# EAGLE library part MAXQ7667AACM/V+ (library maxq7667)
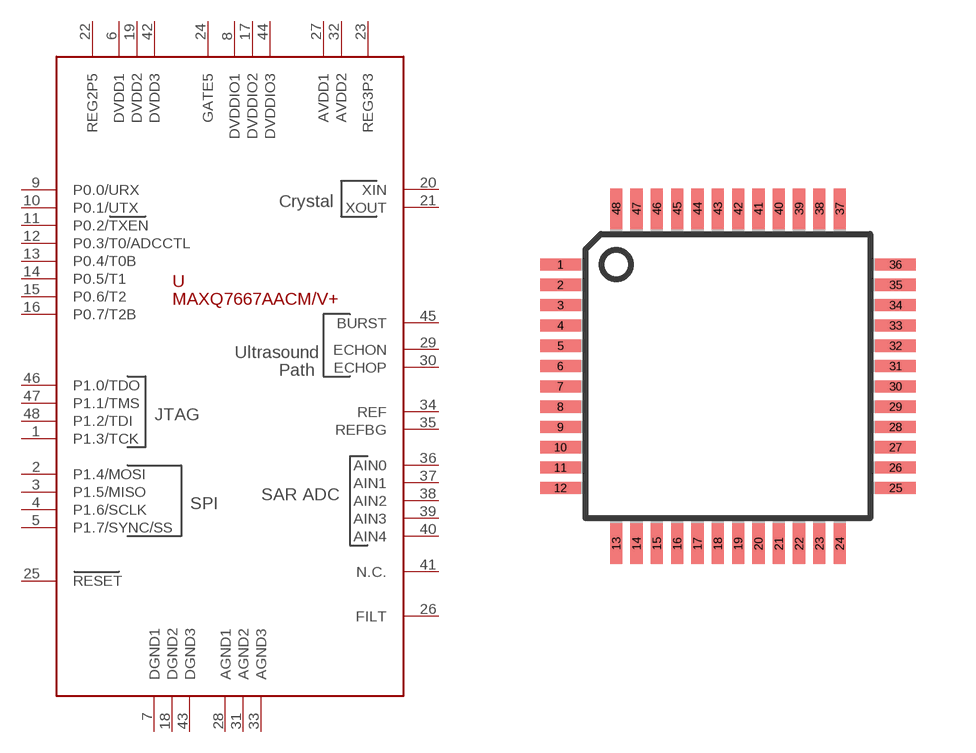
[diagram p0: symbol with the pads of TQFP48; footprint TQFP48]

Designator prefix -

## MAXQ7667AACM/V+  [TQFP48]
1  P1.3/TCK
2  P1.4/MOSI
3  P1.5/MISO
4  P1.6/SCLK
5  P1.7/SYNC/SS
6  DVDD1  pwr
7  DGND1  pwr
8  DVDDIO1  pwr
9  P0.0/URX
10  P0.1/UTX
11  P0.2/TXEN
12  P0.3/T0/ADCCTL
13  P0.4/T0B
14  P0.5/T1
15  P0.6/T2
16  P0.7/T2B
17  DVDDIO2  pwr
18  DGND2  pwr
19  DVDD2  pwr
20  XIN  in
21  XOUT  out
22  REG2P5  pwr
23  REG3P3  pwr
24  GATE5  out
25  RESET
26  FILT
27  AVDD1  pwr
28  AGND1  pwr
29  ECHON  in
30  ECHOP  in
31  AGND2  pwr
32  AVDD2  pwr
33  AGND3  pwr
34  REF
35  REFBG
36  AIN0  in
37  AIN1  in
38  AIN2  in
39  AIN3  in
40  AIN4  in
41  N.C.  nc
42  DVDD3  pwr
43  DGND3  pwr
44  DVDDIO3  pwr
45  BURST  out
46  P1.0/TDO
47  P1.1/TMS
48  P1.2/TDI

## Footprint TQFP48 (pad centres in mm)
Thin Plasic Quad Flat Package
smd 1.016 x 0.305: 1 -4.191,2.794; 2 -4.191,2.286; 3 -4.191,1.778; 4 -4.191,1.27; 5 -4.191,0.762; 6 -4.191,0.254; 7 -4.191,-0.254; 8 -4.191,-0.762; 9 -4.191,-1.27; 10 -4.191,-1.778; 11 -4.191,-2.286; 12 -4.191,-2.794; 25 4.191,-2.794; 26 4.191,-2.286; 27 4.191,-1.778; 28 4.191,-1.27; 29 4.191,-0.762; 30 4.191,-0.254; 31 4.191,0.254; 32 4.191,0.762; 33 4.191,1.27; 34 4.191,1.778; 35 4.191,2.286; 36 4.191,2.794
smd 0.305 x 1.016: 13 -2.794,-4.191; 14 -2.286,-4.191; 15 -1.778,-4.191; 16 -1.27,-4.191; 17 -0.762,-4.191; 18 -0.254,-4.191; 19 0.254,-4.191; 20 0.762,-4.191; 21 1.27,-4.191; 22 1.778,-4.191; 23 2.286,-4.191; 24 2.794,-4.191; 37 2.794,4.191; 38 2.286,4.191; 39 1.778,4.191; 40 1.27,4.191; 41 0.762,4.191; 42 0.254,4.191; 43 -0.254,4.191; 44 -0.762,4.191; 45 -1.27,4.191; 46 -1.778,4.191; 47 -2.286,4.191; 48 -2.794,4.191